# Altium integrated library TPM-SimonK_INTLIB.IntLib: 68 symbols (part 1 of 2)
Pins are listed as number, name and electrical type; pins without a type are passive.

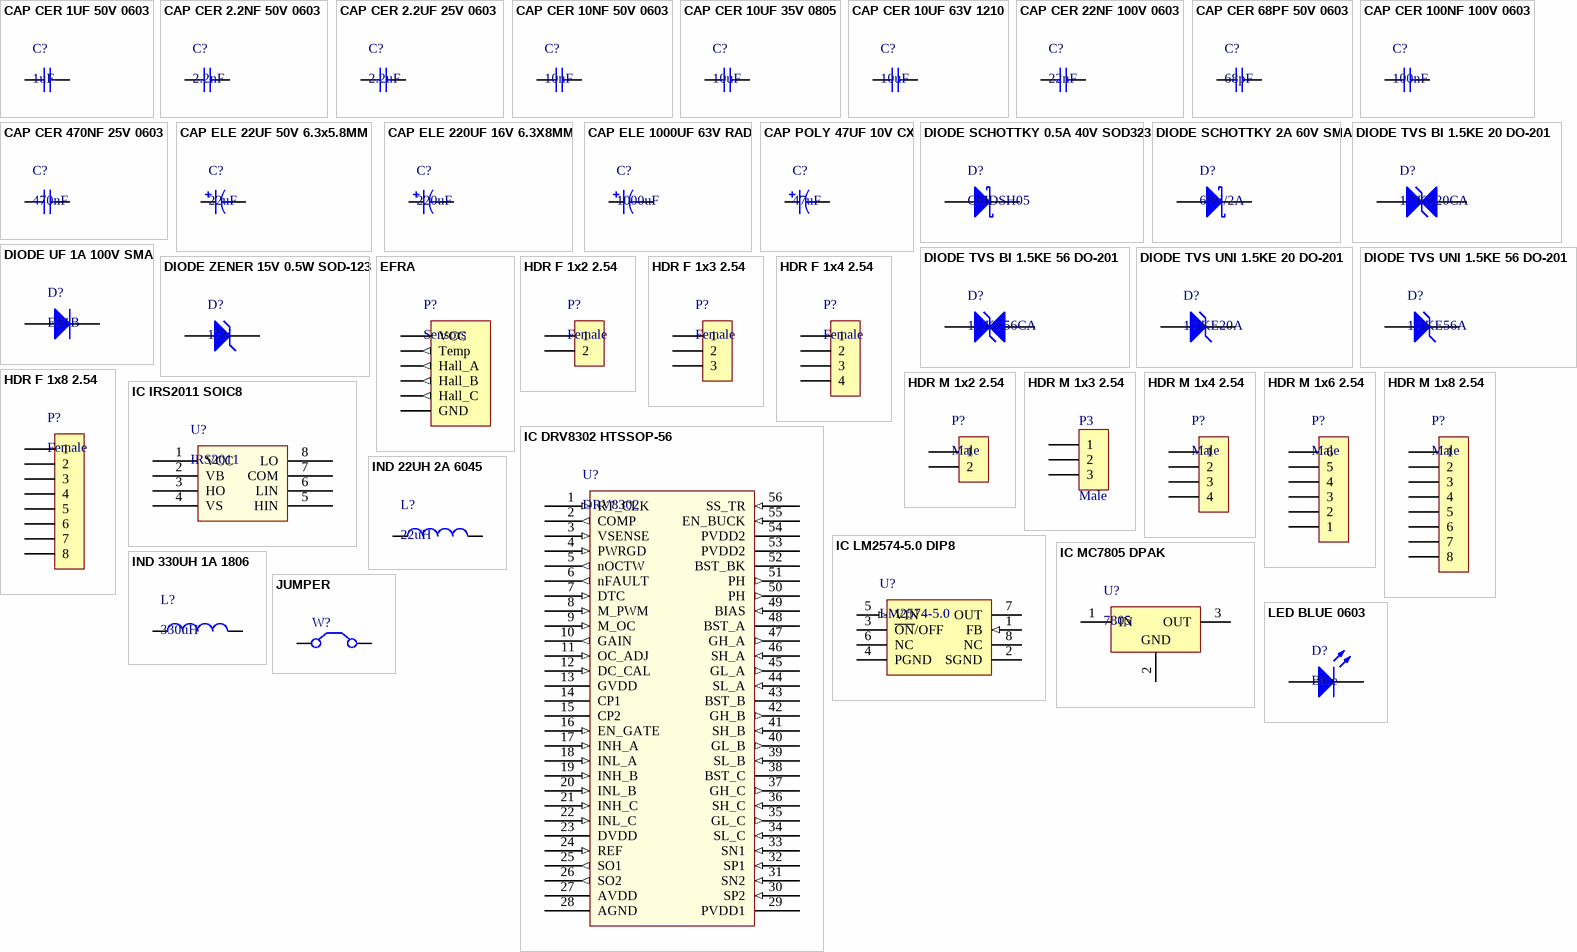
[diagram p0: symbols CAP CER 1UF 50V 0603 to LED BLUE 0603]

## CAP CER 1UF 50V 0603
designator C?, comment 1uF
Multilayer Ceramic Capacitors MLCC - SMD/SMT 1uF 50Volts X5R +/-10% 0603 STD; Manufacturer: Taiyo Yuden; Manufacturer Part Number: UMK107BJ105KA-T; Tolerance: 10 %; Type: Industrial/Automotive and Safety; Voltage Rating DC: 50 VDC; Class: Class 2; Supplier 1: Mouser; RoHS: RoHS Compliant; Category: Multilayer Ceramic Capacitors MLCC - SMD/SMT; Stock 1: 171912; Pricing 1: 1=0.16, 10=0.064, 100=0.044, 500=0.037, 1000=0.031 (USD); Capacitance: 1 uF; Height: 0.8 mm; Length: 1.6 mm; Package / Case: 0603 (1608 metric); Packaging: Reel; Product: General Type MLCCs; Series: M; Termination Style: SMD/SMT; Width: 0.8 mm; Brand: Taiyo Yuden; Case Code - in: 0603; Case Code - mm: 1608; Dielectric: X5R; Maximum Operating Temperature: + 85 C; Minimum Operating Temperature: - 55 C; Standard Pack Qty: 4000; Termination: -; RoHS - Mouser: Y; Minimum Order Quantity: 1; Reeling: True; ComponentLink1URL: http://www.yuden.co.jp/productdata/catalog/en/mlcc_all_e.pdf; ComponentLink1Description: http://www.yuden.co.jp/productdata/catalog/en/mlcc_all_e.pdf; Supplier Part Number 1: 963-UMK107BJ105KA-T
footprint CAP CER 0603
pins: 1, 2

## CAP CER 2.2NF 50V 0603
designator C?, comment 2.2nF
Multilayer Ceramic Capacitors MLCC - SMD/SMT 0603 2200pF 50volts X7R 10%; Manufacturer: Murata Electronics; Manufacturer Part Number: GRM188R71H222KA01D; Type: General Purpose MLCC; Voltage Rating DC: 50 VDC; Supplier 1: Mouser; RoHS: RoHS Compliant; Category: Multilayer Ceramic Capacitors MLCC - SMD/SMT; Stock 1: 239112; Pricing 1: 1=0.10, 10=0.019, 100=0.012, 1000=0.009 (USD); Capacitance: 2200 pF; Height: 0.8 mm; Length: 1.6 mm; Package / Case: 0603 (1608 metric); Packaging: Reel; Product: General Type MLCCs; Series: GRM; Termination Style: SMD/SMT; Tolerance: 10 %; Width: 0.8 mm; Brand: Murata Electronics; Case Code - in: 0603; Case Code - mm: 1608; Dielectric: X7R; Maximum Operating Temperature: + 125 C; Minimum Operating Temperature: - 55 C; Product Category: Low & Medium Capacitance SMD Ceramic Chip Capacitors; Standard Pack Qty: 4000; RoHS - Mouser: Y; Minimum Order Quantity: 1; Reeling: True; ComponentLink1URL: http://www.mouser.com/ds/2/281/c02e-2905.pdf; ComponentLink1Description: http://www.mouser.com/ds/2/281/c02e-2905.pdf; Supplier Part Number 1: 81-GRM39X222K50D
footprint CAP CER 0603
pins: 1, 2

## CAP CER 2.2UF 25V 0603
designator C?, comment 2.2uF
Multilayer Ceramic Capacitors MLCC - SMD/SMT 0603 2.2uF 25volts X5R 10%; Manufacturer: Murata Electronics; Manufacturer Part Number: GRM188R61E225KA12D; Type: General Purpose Ceramic Capacitors; Voltage Rating DC: 25 VDC; Class: Class 2; Product Status: New Product; Supplier 1: Mouser; RoHS: RoHS Compliant; Category: Multilayer Ceramic Capacitors MLCC - SMD/SMT; Stock 1: 56665; Pricing 1: 1=0.14, 10=0.057, 100=0.033, 1000=0.027 (USD); Capacitance: 2.2 uF; Height: 0.8 mm; Length: 1.6 mm; Packaging: Reel; Product: General Type MLCCs; Series: GRM; Termination Style: SMD/SMT; Tolerance: 10 %; Width: 0.8 mm; Brand: Murata Electronics; Case Code - in: 0603; Case Code - mm: 1608; Dielectric: X5R; Maximum Operating Temperature: + 85 C; Minimum Operating Temperature: - 55 C; RoHS - Mouser: Y; Minimum Order Quantity: 1; Reeling: True; ComponentLink1URL: http://www.mouser.com/ds/2/281/c02e-2905.pdf; ComponentLink1Description: http://www.mouser.com/ds/2/281/c02e-2905.pdf; Supplier Part Number 1: 81-GRM188R61E225KA2D
footprint CAP CER 0603
pins: 1, 2

## CAP CER 10NF 50V 0603
designator C?, comment 10nF
Multilayer Ceramic Capacitors MLCC - SMD/SMT 0603 .01uF 50volts X7R 10%; Manufacturer: Vishay / Vitramon; Manufacturer Part Number: VJ0603Y103KXAAC31; Capacitance: 0.01 uF; Type: Automotive MLCCs; Voltage Rating DC: 50 VDC; Supplier 1: Mouser; RoHS: RoHS Compliant By Exemption; Category: Multilayer Ceramic Capacitors MLCC - SMD/SMT; Stock 1: 0; Pricing 1: 1=0.13, 50=0.115, 100=0.079, 500=0.069, 1000=0.059 (USD); Height: 0.97 mm; Length: 1.6 mm; Package / Case: 0603 (1608 metric); Packaging: Reel; Product: Automotive MLCCs; Series: VJ AUTO; Termination Style: SMD/SMT; Tolerance: 10 %; Voltage Rating AC: -; Width: 0.8 mm; Brand: Vishay / Vitramon; Case Code - in: 0603; Case Code - mm: 1608; Dielectric: X7R; Maximum Operating Temperature: + 125 C; Minimum Operating Temperature: - 55 C; Product Category: Ceramic Chip Capacitors; RoHS - Mouser: E; Minimum Order Quantity: 1; Reeling: True; ComponentLink1URL: http://www.mouser.com/ds/2/427/vj31vj34automlcc-222663.pdf; ComponentLink1Description: http://www.mouser.com/ds/2/427/vj31vj34automlcc-222663.pdf; Supplier Part Number 1: 77-VJ0603Y103KXAAC31
footprint CAP CER 0603
pins: 1, 2

## CAP CER 10UF 35V 0805
designator C?, comment 10uF
Multilayer Ceramic Capacitors MLCC - SMD/SMT 0805 10uF 35volts *Derate Voltage/Temp; Manufacturer: Murata Electronics; Manufacturer Part Number: GRM21BR6YA106KE43L; Tolerance: 10 %; Type: Voltage and Temperature Derating Recommended Product; Voltage Rating DC: 35 VDC; Dielectric: X5R; Product Status: New Product; Supplier 1: Mouser; RoHS: RoHS Compliant; Category: Multilayer Ceramic Capacitors MLCC - SMD/SMT; Stock 1: 33530; Pricing 1: 1=0.33, 10=0.176, 100=0.106, 1000=0.095 (USD); Capacitance: 10 uF; Height: 1.25 mm; Length: 2 mm; Package / Case: 0805 (2012 metric); Packaging: Reel; Product: General Type MLCCs; Series: GRM; Termination Style: SMD/SMT; Width: 1.25 mm; Brand: Murata Electronics; Case Code - in: 0805; Case Code - mm: 2012; Maximum Operating Temperature: + 85 C; Minimum Operating Temperature: - 55 C; RoHS - Mouser: Y; Minimum Order Quantity: 1; Reeling: True; ComponentLink1URL: http://www.mouser.com/ds/2/281/c02e-2905.pdf; ComponentLink1Description: http://www.mouser.com/ds/2/281/c02e-2905.pdf; Supplier Part Number 1: 81-GRM21BR6YA106KE3L
footprint CAP CER 0805
pins: 1, 2

## CAP CER 10UF 63V 1210
designator C?, comment 10uF
Multilayer Ceramic Capacitors MLCC - SMD/SMT 1210 10uF 63volts *Derate Voltage/Temp; Manufacturer: Murata Electronics; Manufacturer Part Number: GRM32ER71J106MA12L; Tolerance: 20 %; Type: Voltage and Temperature Derating Recommended Product; Voltage Rating DC: 63 VDC; Dielectric: X7R; Product Status: New Product; Supplier 1: Mouser; RoHS: RoHS Compliant; Category: Multilayer Ceramic Capacitors MLCC - SMD/SMT; Stock 1: 0; Pricing 1: 1=1.05, 10=0.66, 100=0.397 (USD); Capacitance: 10 uF; Height: 2.5 mm; Length: 3.2 mm; Package / Case: 1210 (3225 metric); Packaging: Reel; Product: General Type MLCCs; Series: GRM; Termination Style: SMD/SMT; Width: 2.5 mm; Brand: Murata Electronics; Case Code - in: 1210; Case Code - mm: 3225; Maximum Operating Temperature: + 125 C; Minimum Operating Temperature: - 55 C; RoHS - Mouser: Y; Minimum Order Quantity: 1; Reeling: True; ComponentLink1URL: http://www.murata.com/products/catalog/pdf/c02e.pdf; ComponentLink1Description: http://www.murata.com/products/catalog/pdf/c02e.pdf; Supplier Part Number 1: 81-GRM32ER71J106MA2L
footprint CAP CER 1210
pins: 1, 2

## CAP CER 22NF 100V 0603
designator C?, comment 22nF
Multilayer Ceramic Capacitors MLCC - SMD/SMT X7R 100V 0.022uF 10%; Manufacturer: TDK; Manufacturer Part Number: C1608X7R2A223K080AA; Type: Mid-Voltage Multilayer Ceramic Chip Capacitor; Voltage Rating DC: 100 VDC; Supplier 1: Mouser; RoHS: RoHS Compliant; Category: Multilayer Ceramic Capacitors MLCC - SMD/SMT; Stock 1: 44553; Pricing 1: 1=0.10, 10=0.072, 100=0.024, 1000=0.018 (USD); Capacitance: 0.022 uF; Height: 0.800 mm; Length: 1.600 mm; Package / Case: 0603 (1608 metric); Packaging: Reel; Product: General Type MLCCs; Series: C1608; Termination Style: SMD/SMT; Tolerance: 10 %; Width: 0.800 mm; Brand: TDK; Case Code - in: 0603; Case Code - mm: 1608; Dielectric: X7R; Maximum Operating Temperature: + 125 C; Minimum Operating Temperature: - 55 C; Product Category: Low & Medium Capacitance SMD Ceramic Chip Capacitors; Standard Pack Qty: 4000; RoHS - Mouser: Y; Minimum Order Quantity: 1; Reeling: True; ComponentLink1URL: http://www.mouser.com/ds/2/400/lcc_commercial_general_en-837201.pdf; ComponentLink1Description: http://www.mouser.com/ds/2/400/lcc_commercial_general_en-837201.pdf; Supplier Part Number 1: 810-C1608X7R2A223K
footprint CAP CER 0603
pins: 1, 2

## CAP CER 68PF 50V 0603
designator C?, comment 68pF
Multilayer Ceramic Capacitors MLCC - SMD/SMT 0603 68pF 50volts C0G 5%; Manufacturer: Vishay / Vitramon; Manufacturer Part Number: VJ0603A680JXACW1BC; Type: Ultra Small Commodity MLCCs; Voltage Rating DC: 50 VDC; Dielectric: C0G (NP0); Supplier 1: Mouser; RoHS: RoHS Compliant; Category: Multilayer Ceramic Capacitors MLCC - SMD/SMT; Stock 1: 24968; Pricing 1: 1=0.06, 50=0.05, 100=0.04, 500=0.03, 1000=0.025 (USD); Capacitance: 68 pF; Height: 0.95 mm; Length: 1.6 mm; Package / Case: 0603 (1608 metric); Packaging: Reel; Product: General Type MLCCs; Series: VJ W1BC; Termination Style: SMD/SMT; Tolerance: 5 %; Voltage Rating AC: -; Width: 0.8 mm; Brand: Vishay / Vitramon; Case Code - in: 0603; Case Code - mm: 1608; Maximum Operating Temperature: + 125 C; Minimum Operating Temperature: - 55 C; Product Category: Ceramic Chip Capacitors; Standard Pack Qty: 4000; RoHS - Mouser: Y; Minimum Order Quantity: 1; Reeling: True; ComponentLink1URL: http://www.mouser.com/ds/2/427/vjw1bcbascomseries-223529.pdf; ComponentLink1Description: http://www.mouser.com/ds/2/427/vjw1bcbascomseries-223529.pdf; Supplier Part Number 1: 77-VJ0603A680JXACBC
footprint CAP CER 0603
pins: 1, 2

## CAP CER 100NF 100V 0603
designator C?, comment 100nF
Multilayer Ceramic Capacitors MLCC - SMD/SMT 0603 0.1uF 100volts X7R 10%; Manufacturer: Murata Electronics; Manufacturer Part Number: GCM188R72A104KA64D; Type: Automotive Ultra Small MLCC; Voltage Rating DC: 100 VDC; Supplier 1: Mouser; RoHS: RoHS Compliant; Category: Multilayer Ceramic Capacitors MLCC - SMD/SMT; Stock 1: 76987; Pricing 1: 1=0.18, 10=0.079, 100=0.047, 1000=0.04 (USD); Capacitance: 0.1 uF; Height: 0.8 mm; Length: 1.6 mm; Package / Case: 0603 (1608 metric); Packaging: Reel; Product: Automotive MLCCs; Series: GCM; Termination Style: SMD/SMT; Tolerance: 10 %; Width: 0.8 mm; Brand: Murata Electronics; Case Code - in: 0603; Case Code - mm: 1608; Dielectric: X7R; Maximum Operating Temperature: + 125 C; Minimum Operating Temperature: - 55 C; Product Category: Automotive Ceramic Chip Capacitors; Standard Pack Qty: 4000; RoHS - Mouser: Y; Minimum Order Quantity: 1; Reeling: True; ComponentLink1URL: http://www.murata.com/products/catalog/pdf/c03e.pdf; ComponentLink1Description: http://www.murata.com/products/catalog/pdf/c03e.pdf; Supplier Part Number 1: 81-GCM188R72A104KA4D
footprint CAP CER 0603
pins: 1, 2

## CAP CER 470NF 25V 0603
designator C?, comment 470nF
Multilayer Ceramic Capacitors MLCC - SMD/SMT .47uF 25Volts X7R +/-10% 0603 STD; Manufacturer: Taiyo Yuden; Manufacturer Part Number: TMK107B7474KA-TR; Capacitance: 0.47 uF; Tolerance: 10 %; Voltage Rating DC: 25 VDC; Supplier 1: Mouser; RoHS: RoHS Compliant; Category: Multilayer Ceramic Capacitors MLCC - SMD/SMT; Stock 1: 23162; Pricing 1: 1=0.10, 10=0.039, 100=0.027, 500=0.024, 1000=0.018 (USD); Height: 0.8 mm; Length: 1.6 mm; Package / Case: 0603 (1608 metric); Packaging: Reel; Product: General Type MLCCs; Series: M; Termination Style: SMD/SMT; Type: Multilayer Ceramic Capacitor; Width: 0.8 mm; Brand: Taiyo Yuden; Case Code - in: 0603; Case Code - mm: 1608; Dielectric: X7R; Maximum Operating Temperature: + 125 C; Minimum Operating Temperature: - 55 C; Standard Pack Qty: 4000; RoHS - Mouser: Y; Minimum Order Quantity: 1; Reeling: True; ComponentLink1URL: http://www.mouser.com/ds/2/396/mlcc_all_e-541559.pdf; ComponentLink1Description: http://www.mouser.com/ds/2/396/mlcc_all_e-541559.pdf; Supplier Part Number 1: 963-TMK107B7474KA-TR
footprint CAP CER 0603
pins: 1, 2

## CAP ELE 22UF 50V 6.3x5.8MM
designator C?, comment 22uF
Aluminum Electrolytic Capacitors - SMD 22uF 50V; Manufacturer: Panasonic; Manufacturer Part Number: EEE-FK1H220P; Tolerance: 20 %; Type: Aluminum Electrolytic Capacitors/Medium-size; Voltage Rating DC: 50 VDC; ESR: 880 mOhms; Life: 2000 Hour; Ripple Current: 165 mA; Supplier 1: Mouser; RoHS: RoHS Compliant; Category: Aluminum Electrolytic Capacitors - SMD; Stock 1: 19027; Pricing 1: 1=0.50, 10=0.303, 100=0.19 (USD); Capacitance: 22 uF; Diameter: 6.3 mm; Height: 5.8 mm; Length: 5.8 mm; Packaging: Reel; Product: High Temp Electrolytic Capacitors; Series: FK; Termination Style: SMD/SMT; Brand: Panasonic; Maximum Operating Temperature: + 105 C; Minimum Operating Temperature: - 55 C; Product Category: SMD Electrolytic Aluminum Capacitors; Standard Pack Qty: 1000; RoHS - Mouser: Y; Minimum Order Quantity: 1; Reeling: True; ComponentLink1URL: http://www.mouser.com/ds/2/315/ABA0000CE120-68386.pdf; ComponentLink1Description: http://www.mouser.com/ds/2/315/ABA0000CE120-68386.pdf; Supplier Part Number 1: 667-EEE-FK1H220P
footprint CAP ALU 6.3X5.8MM
pins: 1, 2

## CAP ELE 220UF 16V 6.3X8MM
designator C?, comment 220uF
Aluminum Electrolytic Capacitors - SMD 220uF 16V; Manufacturer: Panasonic; Manufacturer Part Number: EEE-1CA221XP; Tolerance: 20 %; Voltage Rating DC: 16 VDC; Life: 2000 Hour; Ripple Current: 162 mA; Supplier 1: Mouser; RoHS: RoHS Compliant; Category: Aluminum Electrolytic Capacitors - SMD; Stock 1: 22323; Pricing 1: 1=0.56, 10=0.325, 100=0.174 (USD); Capacitance: 220 uF; Diameter: 6.3 mm; Height: 7.7 mm; Length: 8 mm; Packaging: Reel; Product: Aluminum Electrolytic Capacitors; Series: S; Termination Style: SMD/SMT; Brand: Panasonic; Maximum Operating Temperature: + 85 C; Minimum Operating Temperature: - 40 C; Product Category: SMD Electrolytic Aluminum Capacitors; Standard Pack Qty: 900; RoHS - Mouser: Y; Minimum Order Quantity: 1; Reeling: True; ComponentLink1URL: http://www.mouser.com/ds/2/315/ABA0000CE2-40801.pdf; ComponentLink1Description: http://www.mouser.com/ds/2/315/ABA0000CE2-40801.pdf; Supplier Part Number 1: 667-EEE-1CA221XP
footprint CAP ALU 6.3X8MM
pins: 1, 2

## CAP ELE 1000UF 63V RAD
designator C?, comment 1000uF
Aluminum Electrolytic Capacitors - Leaded 63volts 1000uF 16x25 20% 7.5LS; Manufacturer: Nichicon; Manufacturer Part Number: UVZ1J102MHD; Type: Wide Temperature Range Aluminum Electrolytic Capacitors; Voltage Rating DC: 63 VDC; Leakage Current: 1890 uA; Dissipation Factor DF: 0.1; Life: 1000 Hour; Ripple Current: 930 mA; Supplier 1: Mult Comercial; RoHS: RoHS Compliant; Category: Aluminum Electrolytic Capacitors - Leaded; Stock 1: 3837; Pricing 1: 1=2.90 (BRL); Capacitance: 1000 uF; Diameter: 16 mm; Length: 25 mm; Packaging: Bulk; Product: General Purpose Electrolytic Capacitors; Series: VZ; Termination Style: Radial; Tolerance: 20 %; Brand: Nichicon; Lead Spacing: 7.5 mm; Maximum Operating Temperature: + 105 C; Product Category: Radial Aluminum Electrolytic Capacitors; Standard Pack Qty: 50; RoHS - Mouser: Y; Minimum Order Quantity: 1; Reeling: False; ComponentLink1URL: http://loja.multcomercial.com.br/capacitor-eletrolitico-1000uf-63v.html; ComponentLink1Description: http://loja.multcomercial.com.br/capacitor-eletrolitico-1000uf-63v.html; Supplier Part Number 1: Capacitor Eletrolítico 1000uF/63V
footprint CAP RAD 16X25MM
pins: 1, 2

## CAP POLY 47UF 10V CX
designator C?, comment 47uF
Aluminum Organic Polymer Capacitors 10V 47uF 20% ESR 40mohm; Manufacturer: Panasonic; Manufacturer Part Number: EEF-CX1A470R; Type: Organic Polymer Aluminum - SMD Capacitors; Voltage Rating DC: 10 VDC; ESR: 40 mOhms; Life: 1000 Hour; Ripple Current: 3 A; Supplier 1: Mouser; RoHS: RoHS Compliant; Category: Aluminum Organic Polymer Capacitors; Stock 1: 3389; Pricing 1: 1=1.85, 10=1.40, 100=1.13, 500=1.05, 1000=0.82 (USD); Capacitance: 47 uF; Height: 1.9 mm; Length: 7.3 mm; Package / Case: 2917 (7343 metric); Packaging: Reel; Product: Molded; Series: EEF-CX; Termination Style: SMD/SMT; Tolerance: 20 %; Width: 4.3 mm; Brand: Panasonic; Case Code - in: 2917; Case Code - mm: 7343; Maximum Operating Temperature: + 105 C; Minimum Operating Temperature: - 40 C; Standard Pack Qty: 3500; Tradename: SP-Cap; RoHS - Mouser: Y; Minimum Order Quantity: 1; Reeling: True; ComponentLink1URL: http://www.mouser.com/ds/2/315/ABE0000CE19-269408.pdf; ComponentLink1Description: http://www.mouser.com/ds/2/315/ABE0000CE19-269408.pdf; Supplier Part Number 1: 667-EEF-CX1A470R
footprint CAP POLY CX
pins: 1, 2

## DIODE SCHOTTKY 0.5A 40V SOD323
designator D?, comment CMDSH05
Schottky Diodes & Rectifiers 40V Low Vf Schottky 500mA If 250mW; Manufacturer: Central Semiconductor; Manufacturer Part Number: CMDSH05-4 TR; Ifsm - Forward Surge Current: 10 A; Vf - Forward Voltage: 0.47 V; Supplier 1: Mouser; RoHS: RoHS Compliant; Category: Schottky Diodes & Rectifiers; Stock 1: 2972; Pricing 1: 1=0.38, 10=0.325, 100=0.171, 1000=0.153 (USD); Package / Case: SOD-323; Packaging: Reel; Product: Schottky Diodes; Series: CMDSH05; Technology: Si; Brand: Central Semiconductor; Mounting Style: SMD/SMT; If - Forward Current: 500 mA; Maximum Operating Temperature: + 150 C; Minimum Operating Temperature: - 65 C; Pd - Power Dissipation: 250 mW; Tradename: Supermini; Vrrm - Repetitive Reverse Voltage: 40 V; RoHS - Mouser: Y; Minimum Order Quantity: 1; Reeling: True; ComponentLink1URL: http://www.mouser.com/ds/2/68/cmdsh05-4-370554.pdf; ComponentLink1Description: http://www.mouser.com/ds/2/68/cmdsh05-4-370554.pdf; Supplier Part Number 1: 610-CMDSH05-4TR
footprint SOD-323
pins: 1 A, 2 K

## DIODE SCHOTTKY 2A 60V SMA
designator D?, comment 60V/2A
Schottky Diodes & Rectifiers 2.0 Amp 60 Volt 40 Amp IFSM; Manufacturer: Vishay Semiconductors; Manufacturer Part Number: SS26SHE3_A/H; If - Forward Current: 2 A; Ifsm - Forward Surge Current: 40 A; Ir - Reverse Current: 10 mA; Vf - Forward Voltage: 750 mV; Vr - Reverse Voltage: 60 V; Product Status: New at Mouser; Supplier 1: Mouser; RoHS: RoHS Compliant; Category: Schottky Diodes & Rectifiers; Stock 1: 6399; Pricing 1: 1=0.39, 10=0.258, 100=0.16, 500=0.144, 1000=0.108 (USD); Package / Case: DO-214AC-2; Packaging: Reel; Product: Schottky Rectifiers; Series: SS2x; Technology: Si; Brand: Vishay Semiconductors; Mounting Style: SMD/SMT; Maximum Operating Temperature: + 150 C; Minimum Operating Temperature: - 55 C; Pd - Power Dissipation: -; Product Category: Schottky Rectifiers; trr - Reverse Recovery time: -; Vrrm - Repetitive Reverse Voltage: 60 V; RoHS - Mouser: Y; Minimum Order Quantity: 1; Reeling: True; ComponentLink1URL: http://www.mouser.com/ds/2/427/ss26s-106500.pdf; ComponentLink1Description: http://www.mouser.com/ds/2/427/ss26s-106500.pdf; Supplier Part Number 1: 78-SS26SHE3_A/H
footprint DO-214AC (SMA)
pins: 1 A, 2 K

## DIODE TVS BI 1.5KE 20 DO-201
designator D?, comment 1.5KE20CA
TVS Diodes - Transient Voltage Suppressors 1500W 20V Bidirect; Manufacturer: Vishay Semiconductors; Manufacturer Part Number: 1.5KE20CA-E3/51; Breakdown Voltage: 19 V; Clamping Voltage: 27.7 V; Peak Surge Current: 54.2 A; Pd - Power Dissipation: 1.5 kW; Polarity: Bidirectional; Working Voltage: 17.1 V; Supplier 1: Mouser; RoHS: RoHS Compliant By Exemption; Category: TVS Diodes - Transient Voltage Suppressors; Stock 1: 918; Pricing 1: 1=0.60, 10=0.466, 100=0.30 (USD); Diameter: 5.3 mm; Length: 9.5 mm; Operating Temperature Range: - 55 C to + 175 C; Package / Case: DO-201AA; Packaging: Bulk; Series: 1.5KE,1N6; Termination Style: Axial; Brand: Vishay Semiconductors; Mounting Style: Through Hole; Maximum Operating Temperature: + 175 C; Minimum Operating Temperature: - 55 C; Product Category: Transient Voltage Suppressors; Standard Pack Qty: 1500; Tradename: TransZorb; RoHS - Mouser: E; Minimum Order Quantity: 1; Reeling: False; ComponentLink1URL: http://www.mouser.com/ds/2/427/15ke-240293.pdf; ComponentLink1Description: http://www.mouser.com/ds/2/427/15ke-240293.pdf; Supplier Part Number 1: 625-1.5KE20CA-E3/51
footprint DO-201_BI
pins: 1 A, 2 K

## DIODE TVS BI 1.5KE 56 DO-201
designator D?, comment 1.5KE56CA
TVS Diodes - Transient Voltage Suppressors 1500W 56V Bidirect; Manufacturer: Vishay Semiconductors; Manufacturer Part Number: 1.5KE56CA-E3/54; Breakdown Voltage: 53.2 V to 58.8 V; Clamping Voltage: 77 V; Peak Surge Current: 19.5 A; Pd - Power Dissipation: 1.5 kW; Polarity: Bidirectional; Working Voltage: 47.8 V; Supplier 1: Mult Comercial; RoHS: RoHS Compliant By Exemption; Category: TVS Diodes - Transient Voltage Suppressors; Stock 1: 1144; Pricing 1: 1=1.20 (BRL); Diameter: 5.3 mm; Length: 9.5 mm; Operating Temperature Range: - 55 C to + 175 C; Package / Case: DO-201AA; Packaging: Reel; Series: 1.5KE,1N6; Termination Style: Axial; Type: Transient Voltage Suppressors; Brand: Vishay Semiconductors; Mounting Style: Through Hole; Maximum Operating Temperature: + 175 C; Minimum Operating Temperature: - 55 C; Product Category: Transient Voltage Suppressors; Standard Pack Qty: 1400; Tradename: TransZorb; RoHS - Mouser: E; Minimum Order Quantity: 1; Reeling: True; ComponentLink1URL: http://loja.multcomercial.com.br/diodo-supressor-1-5ke56ca-1-500w-do201-bidirecional-cod-loja-4649-vishay.html; ComponentLink1Description: http://loja.multcomercial.com.br/diodo-supressor-1-5ke56ca-1-500w-do201-bidirecional-cod-loja-4649-vishay.html; Supplier Part Number 1: Diodo Supressor 1.5KE56CA 1.500W DO201 Bidirecional - Cód. Loja 4649 - VISHAY
footprint DO-201_BI
pins: 1 A, 2 K

## DIODE TVS UNI 1.5KE 20 DO-201
designator D?, comment 1.5KE20A
TVS Diodes - Transient Voltage Suppressors 1500W 20V Unidirect; Manufacturer: Vishay Semiconductors; Manufacturer Part Number: 1.5KE20A-E3/51; Breakdown Voltage: 19 V; Clamping Voltage: 27.7 V; Peak Surge Current: 54.2 A; Pd - Power Dissipation: 1.5 kW; Polarity: Unidirectional; Working Voltage: 17.1 V; Supplier 1: Mult Comercial; RoHS: RoHS Compliant By Exemption; Category: TVS Diodes - Transient Voltage Suppressors; Stock 1: 0; Pricing 1: 1=1.40 (USD); Diameter: 5.3 mm; Length: 9.5 mm; Operating Temperature Range: - 55 C to + 175 C; Package / Case: DO-201AA; Packaging: Bulk; Series: 1.5KE,1N6; Termination Style: Axial; Brand: Vishay Semiconductors; Mounting Style: Through Hole; Maximum Operating Temperature: + 175 C; Minimum Operating Temperature: - 55 C; Product Category: Transient Voltage Suppressors; Standard Pack Qty: 1500; Tradename: TransZorb; RoHS - Mouser: E; Minimum Order Quantity: 1500; Reeling: False; ComponentLink1URL: http://loja.multcomercial.com.br/diodo-supressor-1-5ke20a-1-500w-do201-unidirecional-vishay.html; ComponentLink1Description: http://loja.multcomercial.com.br/diodo-supressor-1-5ke20a-1-500w-do201-unidirecional-vishay.html; Supplier Part Number 1: Diodo Supressor 1.5KE20A 1.500W DO201 Unidirecional - VISHAY
footprint DO-201_UNI
pins: 1 A, 2 K

## DIODE TVS UNI 1.5KE 56 DO-201
designator D?, comment 1.5KE56A
TVS Diodes - Transient Voltage Suppressors 1500W 47.8V Uni-Directional; Manufacturer: Littelfuse; Breakdown Voltage: 53.2 V; Clamping Voltage: 77 V; Type: Axial Leaded Transient Voltage Suppressors; Peak Surge Current: 19.7 A; Pd - Power Dissipation: 1.5 kW; Polarity: Unidirectional; Supplier 1: Mult Comercial; Manufacturer Part Number: 1.5KE56A; RoHS: RoHS Compliant; Category: TVS Diodes - Transient Voltage Suppressors; Stock 1: 0; Pricing 1: 1=1.20 (BRL); Diameter: 5.3 mm; Length: 9.5 mm; Operating Temperature Range: - 55 C to + 175 C; Package / Case: DO-201; Packaging: Reel; Series: 1.5KE; Termination Style: Axial; Brand: Littelfuse; Mounting Style: Through Hole; Maximum Operating Temperature: + 175 C; Minimum Operating Temperature: - 55 C; Product Category: TVS Diodes; Standard Pack Qty: 1200; Working Voltage: 47.8 V; RoHS - Mouser: Y; Minimum Order Quantity: 1; Reeling: True; ComponentLink1URL: http://loja.multcomercial.com.br/diodo-supressor-1-5ke56a-1-500w-do201-unidirecional-cod-loja-3034-littelfuse.html; ComponentLink1Description: http://loja.multcomercial.com.br/diodo-supressor-1-5ke56a-1-500w-do201-unidirecional-cod-loja-3034-littelfuse.html; Supplier Part Number 1: Diodo Supressor 1.5KE56A 1.500W DO201 Unidirecional - Cód. Loja 3034 - LITTELFUSE
footprint DO-201_UNI
footprint DO-201_UNI_HIGHER
pins: 1 A, 2 K

## DIODE UF 1A 100V SMA
designator D?, comment ES1B
Rectifiers 1.0a Rectifier UF Recovery; Manufacturer: Fairchild Semiconductor; Configuration: Single; Max Surge Current: 30 A; Recovery Time: 15 ns; If - Forward Current: 1 A; Ir - Reverse Current: 5 uA; Pd - Power Dissipation: 1.47 W; Vf - Forward Voltage: 920 mV; Vr - Reverse Voltage: 100 V; Supplier 1: Mouser; Manufacturer Part Number: ES1B; RoHS: RoHS Compliant By Exemption; Category: Rectifiers; Stock 1: 16384; Pricing 1: 1=0.46, 10=0.262, 100=0.112, 1000=0.086, 2500=0.066 (USD); Package / Case: SMA; Packaging: Reel; Product: Ultra Fast Recovery Rectifiers; Series: ES1B; Brand: Fairchild Semiconductor; Mounting Style: SMD/SMT; Maximum Operating Temperature: + 150 C; Minimum Operating Temperature: - 50 C; Standard Pack Qty: 7500; RoHS - Mouser: E; Minimum Order Quantity: 1; Reeling: True; ComponentLink1URL: http://www.mouser.com/ds/2/149/ES1B-187537.pdf; ComponentLink1Description: http://www.mouser.com/ds/2/149/ES1B-187537.pdf; Supplier Part Number 1: 512-ES1B
footprint DO-214AC (SMA)
pins: 1 A, 2 K

## DIODE ZENER 15V 0.5W SOD-123
designator D?, comment 15V
Zener Diodes 15 Volt 0.5 Watt 2%; Manufacturer: Vishay Semiconductors; Manufacturer Part Number: MMSZ5245C-V-GS18; Configuration: Single; Ir - Reverse Current: 100 nA; Pd - Power Dissipation: 500 mW; Voltage Temperature Coefficient: 0.082 %/C; Zz - Zener Impedance: 16 Ohms; Product Status: End of Life; Supplier 1: Mouser; RoHS: RoHS Compliant By Exemption; Category: Zener Diodes; Stock 1: 5544; Pricing 1: 1=0.10, 10=0.051, 100=0.048, 250=0.046, 500=0.043, 1000=0.04, 2000=0.038, 5000=0.037 (USD); Height: 1.25 mm; Length: 2.85 mm; Package / Case: SOD-123; Packaging: Reel; Series: MMSZ52xx; Width: 1.7 mm; Brand: Vishay Semiconductors; Mounting Style: SMD/SMT; Maximum Operating Temperature: + 150 C; Minimum Operating Temperature: - 65 C; Product Category: Zener Diodes; Standard Pack Qty: 10000; Voltage Tolerance: 2 %; Vz - Zener Voltage: 15 V; RoHS - Mouser: E; Minimum Order Quantity: 1; Reeling: True; ComponentLink1URL: http://www.mouser.com/ds/2/427/vishay_mmsz52251-493650.pdf; ComponentLink1Description: http://www.mouser.com/ds/2/427/vishay_mmsz52251-493650.pdf; Supplier Part Number 1: 78-MMSZ5245C-VGS18
footprint SOD-123
pins: 1 A, 2 K

## EFRA
designator P?, comment Sensors
Headers & Wire Housings 40Pin 2mm Spacing Single Row Hdrs, 5pc; Manufacturer: Cromax; Manufacturer Part Number: IMP10327; Mounting Angle: Vertical; Number of Positions: 40 Position; Pitch: 2.54 mm; Supplier 1: Mult Comercial; RoHS: RoHS Compliant; Category: Headers & Wire Housings; Stock 1: 14; Pricing 1: 1=1.00, 5=0.20 (BRL); Accessory Type: -; Contact Plating: Gold; Contact Type: -; Number of Rows: 1 Row; Product: Headers; Termination Style: Through Hole; Type: Breakaway; Brand: Cromax; Mounting Style: Straight Pin; Row Spacing: -; Contact Gender: Pin (Male); Product Category: Accessories; RoHS - Mouser: Y; Minimum Order Quantity: 1; Reeling: False; ComponentLink1URL: http://loja.multcomercial.com.br/barra-de-pinos-simples-1x40-macho-bmo40-1e.html; ComponentLink1Description: http://loja.multcomercial.com.br/barra-de-pinos-simples-1x40-macho-bmo40-1e.html; Supplier Part Number 1: Barra de Pinos Simples 1x40 Macho BMO40-1E
footprint MODU 2.54MM - 1x6 - HEADER
footprint MODU 2.54MM - 1x6 - CABLE
pins: 1 GND (power), 2 Hall_C (out), 3 Hall_B (out), 4 Hall_A (out), 5 Temp (out), 6 VCC (power)

## HDR F 1x2 2.54
designator P?, comment Female
Headers & Wire Housings 40Pin 2mm Spacing Single Row Hdrs, 5pc; Manufacturer: Cromax; Mounting Angle: Vertical; Number of Positions: 40 Position; Pitch: 2.54 mm; Supplier 1: -; Manufacturer Part Number: -; RoHS: RoHS Compliant; Category: Headers & Wire Housings; Stock 1: 14; Pricing 1: 1=1.60, 5=0.32 (BRL); Accessory Type: -; Contact Plating: Gold; Contact Type: -; Number of Rows: 1 Row; Product: Headers; Termination Style: Through Hole; Type: Breakaway; Brand: Cromax; Mounting Style: Straight Pin; Row Spacing: -; Contact Gender: Pin (Female); Product Category: Accessories; RoHS - Mouser: Y; Minimum Order Quantity: 1; Reeling: False; ComponentLink1URL: -; ComponentLink1Description: -; Supplier Part Number 1: -
footprint MODU (FEMALE) 2.54MM - 1x2 - HEADER
pins: 1, 2

## HDR F 1x3 2.54
designator P?, comment Female
Headers & Wire Housings 40Pin 2mm Spacing Single Row Hdrs, 5pc; Manufacturer: Cromax; Mounting Angle: Vertical; Number of Positions: 40 Position; Pitch: 2.54 mm; Supplier 1: -; Manufacturer Part Number: -; RoHS: RoHS Compliant; Category: Headers & Wire Housings; Stock 1: 14; Pricing 1: 1=1.60, 5=0.32 (BRL); Accessory Type: -; Contact Plating: Gold; Contact Type: -; Number of Rows: 1 Row; Product: Headers; Termination Style: Through Hole; Type: Breakaway; Brand: Cromax; Mounting Style: Straight Pin; Row Spacing: -; Contact Gender: Pin (Female); Product Category: Accessories; RoHS - Mouser: Y; Minimum Order Quantity: 1; Reeling: False; ComponentLink1URL: -; ComponentLink1Description: -; Supplier Part Number 1: -
footprint MODU (FEMALE) 2.54MM - 1x3 - HEADER
pins: 1, 2, 3 (power)

## HDR F 1x4 2.54
designator P?, comment Female
Headers & Wire Housings 40Pin 2mm Spacing Single Row Hdrs, 5pc; Manufacturer: Cromax; Mounting Angle: Vertical; Number of Positions: 40 Position; Pitch: 2.54 mm; Supplier 1: -; Manufacturer Part Number: -; RoHS: RoHS Compliant; Category: Headers & Wire Housings; Stock 1: 14; Pricing 1: 1=1.60, 5=0.32 (BRL); Accessory Type: -; Contact Plating: Gold; Contact Type: -; Number of Rows: 1 Row; Product: Headers; Termination Style: Through Hole; Type: Breakaway; Brand: Cromax; Mounting Style: Straight Pin; Row Spacing: -; Contact Gender: Pin (Female); Product Category: Accessories; RoHS - Mouser: Y; Minimum Order Quantity: 1; Reeling: False; ComponentLink1URL: -; ComponentLink1Description: -; Supplier Part Number 1: -
footprint MODU (FEMALE) 2.54MM - 1x4 - HEADER
pins: 1, 2, 3 (power), 4 (power)

## HDR F 1x8 2.54
designator P?, comment Female
Headers & Wire Housings 40Pin 2mm Spacing Single Row Hdrs, 5pc; Manufacturer: Cromax; Mounting Angle: Vertical; Number of Positions: 40 Position; Pitch: 2.54 mm; Supplier 1: -; Manufacturer Part Number: -; RoHS: RoHS Compliant; Category: Headers & Wire Housings; Stock 1: 14; Pricing 1: 1=1.60, 5=0.32 (BRL); Accessory Type: -; Contact Plating: Gold; Contact Type: -; Number of Rows: 1 Row; Product: Headers; Termination Style: Through Hole; Type: Breakaway; Brand: Cromax; Mounting Style: Straight Pin; Row Spacing: -; Contact Gender: Pin (Female); Product Category: Accessories; RoHS - Mouser: Y; Minimum Order Quantity: 1; Reeling: False; ComponentLink1URL: -; ComponentLink1Description: -; Supplier Part Number 1: -
footprint MODU (FEMALE) 2.54MM - 1x8 - HEADER
pins: 1, 2, 3 (power), 4 (power), 5, 6, 7 (power), 8 (power)

## HDR M 1x2 2.54
designator P?, comment Male
Headers & Wire Housings 40Pin 2mm Spacing Single Row Hdrs, 5pc; Manufacturer: Cromax; Manufacturer Part Number: IMP10327; Mounting Angle: Vertical; Number of Positions: 40 Position; Pitch: 2.54 mm; Supplier 1: Mult Comercial; RoHS: RoHS Compliant; Category: Headers & Wire Housings; Stock 1: 14; Pricing 1: 1=1.00, 5=0.20 (BRL); Accessory Type: -; Contact Plating: Gold; Contact Type: -; Number of Rows: 1 Row; Product: Headers; Termination Style: Through Hole; Type: Breakaway; Brand: Cromax; Mounting Style: Straight Pin; Row Spacing: -; Contact Gender: Pin (Male); Product Category: Accessories; RoHS - Mouser: Y; Minimum Order Quantity: 1; Reeling: False; ComponentLink1URL: http://loja.multcomercial.com.br/barra-de-pinos-simples-1x40-macho-bmo40-1e.html; ComponentLink1Description: http://loja.multcomercial.com.br/barra-de-pinos-simples-1x40-macho-bmo40-1e.html; Supplier Part Number 1: Barra de Pinos Simples 1x40 Macho BMO40-1E
footprint MODU (MALE) 2.54MM - 1x2 - HEADER
pins: 1, 2

## HDR M 1x3 2.54
designator P3, comment Male
Headers & Wire Housings 40Pin 2mm Spacing Single Row Hdrs, 5pc; Manufacturer: Cromax; Mounting Angle: Vertical; Number of Positions: 40 Position; Pitch: 2.54 mm; Supplier 1: -; Manufacturer Part Number: -; RoHS: RoHS Compliant; Category: Headers & Wire Housings; Stock 1: 14; Pricing 1: 1=1.60, 5=0.32 (BRL); Accessory Type: -; Contact Plating: Gold; Contact Type: -; Number of Rows: 1 Row; Product: Headers; Termination Style: Through Hole; Type: Breakaway; Brand: Cromax; Mounting Style: Straight Pin; Row Spacing: -; Contact Gender: Pin (Female); Product Category: Accessories; RoHS - Mouser: Y; Minimum Order Quantity: 1; Reeling: False; ComponentLink1URL: -; ComponentLink1Description: -; Supplier Part Number 1: -
footprint MODU (MALE) 2.54MM - 1x3 - HEADER
footprint MODU 2.54MM - 1x3 - CABLE
pins: 1, 2, 3 (power)

## HDR M 1x4 2.54
designator P?, comment Male
Headers & Wire Housings 40Pin 2mm Spacing Single Row Hdrs, 5pc; Manufacturer: Cromax; Manufacturer Part Number: IMP10327; Mounting Angle: Vertical; Number of Positions: 40 Position; Pitch: 2.54 mm; Supplier 1: Mult Comercial; RoHS: RoHS Compliant; Category: Headers & Wire Housings; Stock 1: 14; Pricing 1: 1=1.00, 5=0.20 (BRL); Accessory Type: -; Contact Plating: Gold; Contact Type: -; Number of Rows: 1 Row; Product: Headers; Termination Style: Through Hole; Type: Breakaway; Brand: Cromax; Mounting Style: Straight Pin; Row Spacing: -; Contact Gender: Pin (Male); Product Category: Accessories; RoHS - Mouser: Y; Minimum Order Quantity: 1; Reeling: False; ComponentLink1URL: http://loja.multcomercial.com.br/barra-de-pinos-simples-1x40-macho-bmo40-1e.html; ComponentLink1Description: http://loja.multcomercial.com.br/barra-de-pinos-simples-1x40-macho-bmo40-1e.html; Supplier Part Number 1: Barra de Pinos Simples 1x40 Macho BMO40-1E
footprint MODU (MALE) 2.54MM - 1x4 - HEADER
pins: 1, 2, 3, 4

## HDR M 1x6 2.54
designator P?, comment Male
Headers & Wire Housings 40Pin 2mm Spacing Single Row Hdrs, 5pc; Manufacturer: Cromax; Manufacturer Part Number: IMP10327; Mounting Angle: Vertical; Number of Positions: 40 Position; Pitch: 2.54 mm; Supplier 1: Mult Comercial; RoHS: RoHS Compliant; Category: Headers & Wire Housings; Stock 1: 14; Pricing 1: 1=1.00, 5=0.20 (BRL); Accessory Type: -; Contact Plating: Gold; Contact Type: -; Number of Rows: 1 Row; Product: Headers; Termination Style: Through Hole; Type: Breakaway; Brand: Cromax; Mounting Style: Straight Pin; Row Spacing: -; Contact Gender: Pin (Male); Product Category: Accessories; RoHS - Mouser: Y; Minimum Order Quantity: 1; Reeling: False; ComponentLink1URL: http://loja.multcomercial.com.br/barra-de-pinos-simples-1x40-macho-bmo40-1e.html; ComponentLink1Description: http://loja.multcomercial.com.br/barra-de-pinos-simples-1x40-macho-bmo40-1e.html; Supplier Part Number 1: Barra de Pinos Simples 1x40 Macho BMO40-1E
footprint MODU 2.54MM - 1x6 - HEADER
pins: 1, 2, 3, 4, 5, 6

## HDR M 1x8 2.54
designator P?, comment Male
Headers & Wire Housings 40Pin 2mm Spacing Single Row Hdrs, 5pc; Manufacturer: Cromax; Manufacturer Part Number: IMP10327; Mounting Angle: Vertical; Number of Positions: 40 Position; Pitch: 2.54 mm; Supplier 1: Mult Comercial; RoHS: RoHS Compliant; Category: Headers & Wire Housings; Stock 1: 14; Pricing 1: 1=1.00, 5=0.20 (BRL); Accessory Type: -; Contact Plating: Gold; Contact Type: -; Number of Rows: 1 Row; Product: Headers; Termination Style: Through Hole; Type: Breakaway; Brand: Cromax; Mounting Style: Straight Pin; Row Spacing: -; Contact Gender: Pin (Male); Product Category: Accessories; RoHS - Mouser: Y; Minimum Order Quantity: 1; Reeling: False; ComponentLink1URL: http://loja.multcomercial.com.br/barra-de-pinos-simples-1x40-macho-bmo40-1e.html; ComponentLink1Description: http://loja.multcomercial.com.br/barra-de-pinos-simples-1x40-macho-bmo40-1e.html; Supplier Part Number 1: Barra de Pinos Simples 1x40 Macho BMO40-1E
footprint MODU (MALE) 2.54MM - 1x8 - HEADER
pins: 1, 2, 3, 4, 5, 6, 7, 8

## IC DRV8302 HTSSOP-56
designator U?, comment DRV8302
Motor / Motion / Ignition Controllers & Drivers 3-PHASE BRUSHLESS MOTOR PRE-DRIVER; Manufacturer: Texas Instruments; Manufacturer Part Number: DRV8302DCAR; Number of Outputs: 2 Output; Output Current: 1.7 A; Operating Supply Current: 15 mA; Operating Supply Voltage: 6 V to 60 V; Supplier 1: Mouser; RoHS: RoHS Compliant; Category: Motor / Motion / Ignition Controllers & Drivers; Stock 1: 2326; Pricing 1: 1=5.96, 10=5.35, 25=4.99, 50=4.72, 100=4.38, 250=4.16, 500=3.73, 1000=2.81 (USD); Operating Temperature Range: - 40 C to + 125 C; Package / Case: HTSSOP-56; Packaging: Reel; Product: Fan / Motor Controllers / Drivers; Series: DRV8302; Type: 3 Phase Pre-Driver; Brand: Texas Instruments; Mounting Style: SMD/SMT; Product Category: Motion/Motor Control; Standard Pack Qty: 2000; RoHS - Mouser: Y; Minimum Order Quantity: 1; Reeling: True; ComponentLink1URL: http://www.mouser.com/ds/2/405/drv8302-452819.pdf; ComponentLink1Description: http://www.mouser.com/ds/2/405/drv8302-452819.pdf; Supplier Part Number 1: 595-DRV8302DCAR
footprint HTSSOP56 0.5MM
pins: 1 RT_CLK (in), 2 COMP (out), 3 VSENSE (in), 4 PWRGD (in), 5 nOCTW (out), 6 nFAULT (out), 7 DTC (in), 8 M_PWM (in), 9 M_OC (in), 10 GAIN (out), 11 OC_ADJ (in), 12 DC_CAL (in), 13 GVDD (power), 14 CP1, 15 CP2, 16 EN_GATE (in), 17 INH_A (in), 18 INL_A (in), 19 INH_B (in), 20 INL_B (in), 21 INH_C (in), 22 INL_C (in), 23 DVDD (power), 24 REF (in), 25 SO1 (out), 26 SO2 (out), 27 AVDD (power), 28 AGND (power), 29 PVDD1 (power), 30 SP2 (in), 31 SN2 (in), 32 SP1 (in), 33 SN1 (in), 34 SL_C (in), 35 GL_C (out), 36 SH_C (in), 37 GH_C (out), 38 BST_C, 39 SL_B (in), 40 GL_B (out), 41 SH_B (in), 42 GH_B (out), 43 BST_B, 44 SL_A (in), 45 GL_A (out), 46 SH_A (in), 47 GH_A (out), 48 BST_A, 49 BIAS (in), 50 PH (out), 51 PH (out), 52 BST_BK, 53 PVDD2 (power), 54 PVDD2 (power), 55 EN_BUCK (in), 56 SS_TR (in), 57 GND (PWR_PAD) (power) hidden to GND

## IC IRS2011 SOIC8
designator U?, comment IRS2011
Gate Drivers Hi&Lw Sd Drvr; Manufacturer: International Rectifier; Manufacturer Part Number: IRS2011STRPBF; Configuration: Non-Inverting; Number of Outputs: 2; Output Current: 1 A; Fall Time: 35 ns; Maximum Turn-Off Delay Time: 60 ns; Number of Drivers: 2 Driver; Operating Supply Current: 300 uA; Pd - Power Dissipation: 625 mW; Rise Time: 40 ns; Supply Voltage - Max: 20 V; Supply Voltage - Min: 10 V; Supplier 1: Mouser; RoHS: RoHS Compliant; Category: Gate Drivers; Stock 1: 1890; Pricing 1: 1=1.87, 10=1.50, 100=1.20, 500=1.05, 1000=0.874 (USD); Features: Independent; Package / Case: SOIC-8; Packaging: Reel; Product: Half-Bridge Drivers; Type: High and Low Side; Brand: International Rectifier; Mounting Style: SMD/SMT; Maximum Operating Temperature: + 125 C; Maximum Turn-On Delay Time: 60 ns; Minimum Operating Temperature: - 40 C; Standard Pack Qty: 2500; RoHS - Mouser: Y; Minimum Order Quantity: 1; Reeling: True; ComponentLink1URL: http://www.mouser.com/ds/2/200/irs2011pbf-90501.pdf; ComponentLink1Description: http://www.mouser.com/ds/2/200/irs2011pbf-90501.pdf; Supplier Part Number 1: 942-IRS2011STRPBF
footprint SOIC8
pins: 1 VCC, 2 VB, 3 HO, 4 VS, 5 HIN, 6 LIN, 7 COM, 8 LO

## IC LM2574-5.0 DIP8
designator U?, comment LM2574-5.0
Voltage Regulators - Switching Regulators 0.5A Step-Down SMPS Regulator; Manufacturer: Microchip Technology / Micrel; Manufacturer Part Number: LM2574-5.0YN; Input Voltage MAX: 40 V; Number of Outputs: 1 Output; Output Current: 500 mA; Output Voltage: 5 V; Switching Frequency: 52 kHz; Topology: Buck; Supplier 1: Mouser; RoHS: RoHS Compliant; Category: Voltage Regulators - Switching Regulators; Stock 1: 254; Pricing 1: 1=1.74, 10=1.45, 25=1.21, 100=1.10, 250=0.797, 500=0.74, 1000=0.713, 5000=0.659, 10000=0.648 (USD); Package / Case: PDIP-8; Packaging: Tube; Series: LM2574; Type: Buck Regulator; Brand: Microchip Technology / Micrel; Mounting Style: Through Hole; Maximum Operating Temperature: + 85 C; Minimum Operating Temperature: - 40 C; Standard Pack Qty: 50; RoHS - Mouser: Y; Minimum Order Quantity: 1; Reeling: False; ComponentLink1URL: http://www.mouser.com/ds/2/268/lm2574-778846.pdf; ComponentLink1Description: http://www.mouser.com/ds/2/268/lm2574-778846.pdf; Supplier Part Number 1: 998-LM2574-5.0YN
footprint DIP8
pins: 1 FB (in), 2 SGND (power), 3 ~{ON}/OFF, 4 PGND (power), 5 VIN (in), 6 NC, 7 OUT (oe), 8 NC

## IC MC7805 DPAK
designator U?, comment 7805
Linear Voltage Regulators 5V 1A Postive; Manufacturer: ON Semiconductor; Manufacturer Part Number: MC7805CDTRKG; Input Voltage MAX: 35 V; Number of Outputs: 1; Output Type: Fixed; PSRR / Ripple Rejection - Typ: 83 dB; Input Voltage MIN: 7 V; Line Regulation: 20 mV; Load Regulation: 25 mV; Polarity: Positive; Supplier 1: Mouser; RoHS: RoHS Compliant; Category: Linear Voltage Regulators; Stock 1: 14398; Pricing 1: 1=0.62, 10=0.481, 100=0.311, 1000=0.248 (USD); Output Current: 1 A; Output Voltage: 5 V; Package / Case: DPAK-3; Packaging: Reel; Series: MC7805; Brand: ON Semiconductor; Mounting Style: SMD/SMT; Maximum Operating Temperature: + 125 C; Minimum Operating Temperature: 0 C; Product Category: Linear Regulators- General Purpose; Standard Pack Qty: 2500; RoHS - Mouser: Y; Minimum Order Quantity: 1; Reeling: True; ComponentLink1URL: http://www.mouser.com/ds/2/308/MC7800-D-94905.pdf; ComponentLink1Description: http://www.mouser.com/ds/2/308/MC7800-D-94905.pdf; Supplier Part Number 1: 863-MC7805CDTRKG
footprint TO-252AA (DPAK) (D-PAK/TO-252-AA; 3 Leads (1 Cropped); Body 10.3 (inc. leads) x 6.7 mm (LxW max))
pins: 1 IN (power), 2 GND (power), 3 OUT (power)

## IND 22UH 2A 6045
designator L?, comment 22uH
Fixed Inductors INDCTR SMD HI CUR 22uH 20%; Manufacturer: Taiyo Yuden; Manufacturer Part Number: NRS6045T220MMGK; Core Material: Ferrite; Maximum DC Current: 2 A; Maximum DC Resistance: 107 mOhms; Self Resonant Frequency: 7 MHz; Shielding: Shielded; Type: Industrial/Automotive and Safety; Test Frequency: 100 kHz; Supplier 1: Mouser; RoHS: RoHS Compliant; Category: Fixed Inductors; Stock 1: 4070; Pricing 1: 1=0.40, 10=0.357, 100=0.333, 500=0.262, 1000=0.214 (USD); Height: 4.5 mm; Inductance: 22 uH; Length: 6 mm; Operating Temperature Range: - 25 C to + 125 C; Package / Case: 6045; Packaging: Reel; Product: Power Inductors; Series: NR; Termination Style: SMD/SMT; Tolerance: 20 %; Width: 6 mm; Brand: Taiyo Yuden; Standard Pack Qty: 1500; RoHS - Mouser: Y; Minimum Order Quantity: 1; Reeling: True; ComponentLink1URL: http://www.mouser.com/ds/2/396/wound04_e-736706.pdf; ComponentLink1Description: http://www.mouser.com/ds/2/396/wound04_e-736706.pdf; Supplier Part Number 1: 963-NRS6045T220MMGK
footprint IND 6045
pins: 1, 2

## IND 330UH 1A 1806
designator L?, comment 330uH
Fixed Inductors 330uH 10% SMD 1806; Manufacturer: Bourns; Manufacturer Part Number: SDR1806-331KL; Maximum DC Current: 1 A; Maximum DC Resistance: 580 mOhms; Q Minimum: 18; Self Resonant Frequency: 3.5 MHz; Shielding: Unshielded; Test Frequency: 0.796 MHz; Supplier 1: Mouser; RoHS: RoHS Compliant; Category: Fixed Inductors; Stock 1: 2565; Pricing 1: 1=0.96, 10=0.84, 50=0.72, 100=0.684 (USD); Height: 6.6 mm; Inductance: 330 uH; Length: 18.3 mm; Operating Temperature Range: - 40 C to + 125 C; Packaging: Reel; Product: Power Inductors; Series: SDR1806; Termination Style: SMD/SMT; Tolerance: 10 %; Width: 14 mm; Brand: Bourns; Mounting Style: SMD/SMT; Product Category: Inductors - Leadfree; Standard Pack Qty: 250; RoHS - Mouser: Y; Minimum Order Quantity: 1; Reeling: True; ComponentLink1URL: http://www.mouser.com/ds/2/54/DR1806-778387.pdf; ComponentLink1Description: http://www.mouser.com/ds/2/54/DR1806-778387.pdf; Supplier Part Number 1: 652-SDR1806-331KL
footprint IND 1806
pins: 1, 2

## JUMPER
designator W?  (value not drawn)
footprint JUMPER
pins: 1 C1, 2 C2

## LED BLUE 0603
designator D?, comment Blue
Standard LEDs - SMD Blue 470nm 120mcd 15mA; Manufacturer: OSRAM Opto Semiconductors; Manufacturer Part Number: LB Q39G-N1P1-35-1; Lens Color/Style: Colorless Diffused; LED Size: 1.6 mm x 0.8 mm x 0.4 mm; Luminous Intensity: 28 mcd; Viewing Angle: 170 deg, 130 deg; If - Forward Current: 5 mA; Vf - Forward Voltage: 2.85 V; Supplier 1: Mouser; RoHS: RoHS Compliant; Category: Standard LEDs - SMD; Stock 1: 9223; Pricing 1: 1=0.100, 10=0.067, 25=0.060, 100=0.053, 250=0.047, 500=0.043, 1000=0.040, 2500=0.036, 4000=0.054 (USD); Illumination Color: Blue; Package / Case: 0603; Packaging: Reel; Series: CHIPLED 0603; Brand: OSRAM Opto Semiconductors; Mounting Style: SMD/SMT; Maximum Operating Temperature: + 85 C; Minimum Operating Temperature: - 30 C; Product Category: Standard LED - Surface Mount; Standard Pack Qty: 4000; Wavelength/Color Temperature: 470 nm; RoHS - Mouser: Y; Minimum Order Quantity: 1; Reeling: True; ComponentLink1URL: http://www.mouser.com/ds/2/311/LB Q39G - CHIPLED 0603-553388.pdf; ComponentLink1Description: http://www.mouser.com/ds/2/311/LB Q39G - CHIPLED 0603-553388.pdf; Supplier Part Number 1: 720-LBQ39GN1P1351
footprint LED 0603 BLUE
pins: 1 A, 2 K

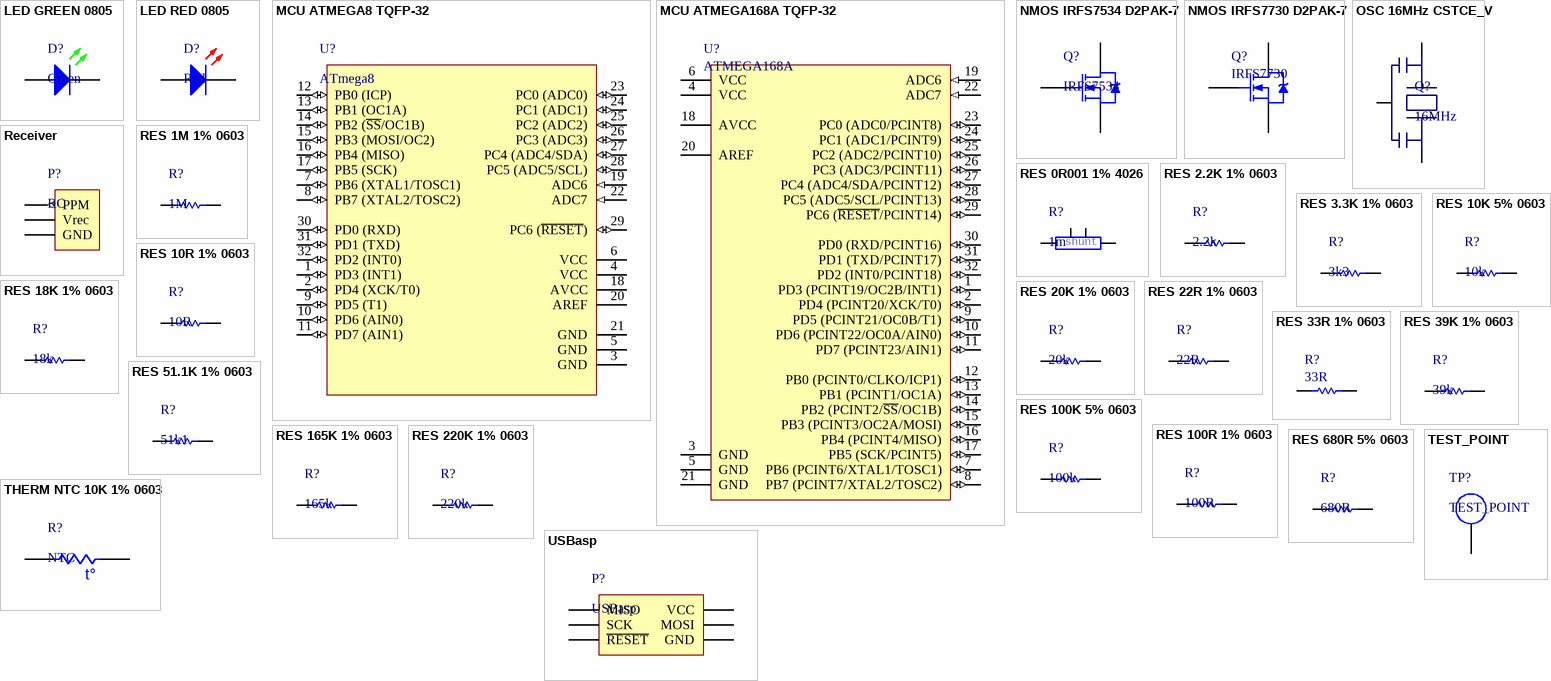
[diagram p1: symbols LED GREEN 0805 to USBasp]

## LED GREEN 0805
designator D?, comment Green
Standard LEDs - SMD Green, 570nm 26mcd, 20mA; Manufacturer: OSRAM Opto Semiconductors; Manufacturer Part Number: LG R971-KN-1; Lens Color/Style: Colorless Diffused; LED Size: 2.1 mm x 1.35 mm x 0.9 mm; Luminous Intensity: 45 mcd; Viewing Angle: 160 deg; Vf - Forward Voltage: 2.2 V; Supplier 1: Mouser; RoHS: RoHS Compliant; Category: Standard LEDs - SMD; Stock 1: 239291; Pricing 1: 1=0.100, 10=0.067, 25=0.060, 100=0.053, 250=0.047, 500=0.043, 1000=0.040, 2500=0.036, 4000=0.054 (USD); Illumination Color: Green; Package / Case: 0805; Packaging: Reel; Series: CHIPLED 0805; Brand: OSRAM Opto Semiconductors; Mounting Style: SMD/SMT; If - Forward Current: 20 mA; Maximum Operating Temperature: + 85 C; Minimum Operating Temperature: - 30 C; Product Category: Standard LED - Surface Mount; Standard Pack Qty: 4000; Wavelength/Color Temperature: 570 nm; RoHS - Mouser: Y; Minimum Order Quantity: 1; Reeling: True; ComponentLink1URL: http://www.mouser.com/ds/2/311/LG R971 - CHIPLED 0805-318376.pdf; ComponentLink1Description: http://www.mouser.com/ds/2/311/LG R971 - CHIPLED 0805-318376.pdf; Supplier Part Number 1: 720-LGR971-KN-1
footprint LED 0805 GREEN
pins: 1 A, 2 K

## LED RED 0805
designator D?, comment Red
Standard LEDs - SMD Super Red, 633nm 180mcd, 20mA; Manufacturer: OSRAM Opto Semiconductors; Manufacturer Part Number: LS R976-NR-1; Lens Color/Style: Colorless Diffused; LED Size: 2 mm x 1.25 mm; Viewing Angle: 160 deg; If - Forward Current: 25 mA; Vf - Forward Voltage: 2.5 V; Supplier 1: Mouser; RoHS: RoHS Compliant; Category: Standard LEDs - SMD; Stock 1: 192253; Pricing 1: 1=0.100, 10=0.067, 25=0.060, 100=0.053, 250=0.047, 500=0.043, 1000=0.040, 2500=0.036, 4000=0.054 (USD); Illumination Color: Red; Package / Case: 0805; Packaging: Reel; Series: CHIPLED 0805; Brand: OSRAM Opto Semiconductors; Luminous Intensity: 180 mcd; Mounting Style: SMD/SMT; Maximum Operating Temperature: + 85 C; Minimum Operating Temperature: - 30 C; Product Category: Standard LED - Surface Mount; Standard Pack Qty: 4000; Wavelength/Color Temperature: 633 nm; RoHS - Mouser: Y; Minimum Order Quantity: 1; Reeling: True; ComponentLink1URL: http://www.mouser.com/ds/2/311/LS R976 - CHIPLED 0805-318756.pdf; ComponentLink1Description: http://www.mouser.com/ds/2/311/LS R976 - CHIPLED 0805-318756.pdf; Supplier Part Number 1: 720-LSR976-NR-1
footprint LED 0805 RED (LED 0805 GREEN)
pins: 1 A, 2 K

## MCU ATMEGA8 TQFP-32
designator U?, comment ATmega8
8-bit Microcontrollers - MCU 8kB Flash 0.5kB EEPROM 23 I/O Pins; Manufacturer: Atmel; Manufacturer Part Number: ATmega8-16AU; Data RAM Size: 1 kB; Data RAM Type: SRAM; Data ROM Size: 512 B; Interface Type: SPI, TWI, USART; Number of I/Os: 23 I/O; Core: AVR; Data Bus Width: 8 bit; Maximum Clock Frequency: 16 MHz; Number of Timers/Counters: 3 Timer; Operating Supply Voltage: 4.5 V to 5.5 V; Processor Series: megaAVR; Supply Voltage - Max: 5.5 V; Supply Voltage - Min: 4.5 V; Supplier 1: Mouser; RoHS: RoHS Compliant; Category: 8-bit Microcontrollers - MCU; Stock 1: 1419; Pricing 1: 1=4.15, 10=3.71, 25=3.34, 50=3.13, 100=3.04, 250=2.74, 500=2.45, 1000=2.07, 2500=2.05 (AUD); Package / Case: TQFP-32; Packaging: Tray; Product: MCU; Program Memory Type: Flash; Series: ATMEGA 8; Brand: Atmel; Data ROM Type: EEPROM; Mounting Style: SMD/SMT; Program Memory Size: 8 kB; Maximum Operating Temperature: + 85 C; Minimum Operating Temperature: - 40 C; Product Category: Microcontrollers - RISC; Standard Pack Qty: 250; Tradename: ATMEGA; RoHS - Mouser: Y; Minimum Order Quantity: 1; Reeling: False; ComponentLink1URL: http://www.mouser.com/ds/2/36/Atmel-2486-8-bit-AVR-microcontroller-ATmega8_L_dat-356589.pdf; ComponentLink1Description: http://www.mouser.com/ds/2/36/Atmel-2486-8-bit-AVR-microcontroller-ATmega8_L_dat-356589.pdf; Supplier Part Number 1: 556-ATMEGA8-16AU
footprint TQFP32 0.8MM
pins: 1 PD3 (INT1) (io), 2 PD4 (XCK/T0) (io), 3 GND (power), 4 VCC (power), 5 GND (power), 6 VCC (power), 7 PB6 (XTAL1/TOSC1) (io), 8 PB7 (XTAL2/TOSC2) (io), 9 PD5 (T1) (io), 10 PD6 (AIN0) (io), 11 PD7 (AIN1) (io), 12 PB0 (ICP) (io), 13 PB1 (OC1A) (io), 14 PB2 (~{SS}/OC1B) (io), 15 PB3 (MOSI/OC2) (io), 16 PB4 (MISO) (io), 17 PB5 (SCK) (io), 18 AVCC (power), 19 ADC6 (in), 20 AREF, 21 GND (power), 22 ADC7 (in), 23 PC0 (ADC0) (io), 24 PC1 (ADC1) (io), 25 PC2 (ADC2) (io), 26 PC3 (ADC3) (io), 27 PC4 (ADC4/SDA) (io), 28 PC5 (ADC5/SCL) (io), 29 PC6 (~{RESET}) (io), 30 PD0 (RXD) (io), 31 PD1 (TXD) (io), 32 PD2 (INT0) (io)